# Altium schematic symbol library 10_RES_THD_AX14_8mm.SchLib: 9 symbols
Pins are listed as number, name and electrical type; pins without a type are passive.

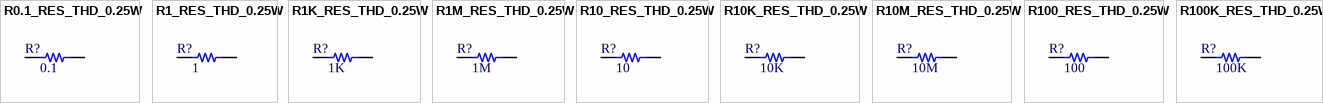
[diagram p0: symbols R0.1_RES_THD_0.25W to R100K_RES_THD_0.25W]

## R0.1_RES_THD_0.25W
designator R?, comment 0.1
RES_THD_0.25W-0.1; Rating: 0.25; Package: THT; Type: 5%; Value: 0.1
footprint 0.1_RES_THD_AX14_0.25W (0.1_RES_THD_AX14_0.25W- 8 mm)
pins: 1, 2

## R1_RES_THD_0.25W
designator R?, comment 1
RES_THD_0.25W-1; Rating: 0.25; Package: THT; Type: 5%; Value: 1
footprint 1_RES_THD_AX14_0.25W (1_RES_THD_AX14_0.25W - 8 mm)
pins: 1, 2

## R1K_RES_THD_0.25W
designator R?, comment 1K
RES_THD_0.25W-1K; Rating: 0.25; Package: THT; Type: 5%; Parameter 1: *; Value: 1K
footprint 1K_RES_THD_AX14_0.25W (1K_RES_THD_AX14_0.25W - 8 mm)
pins: 1, 2

## R1M_RES_THD_0.25W
designator R?, comment 1M
RES_THD_0.25W-1M; Rating: 0.25; Package: THT; Type: 5%; Value: 1M
footprint 1M_RES_THD_AX14_0.25W (1M_RES_THD_AX14_0.25W - 8 mm)
pins: 1, 2

## R10_RES_THD_0.25W
designator R?, comment 10
RES_THD_0.25W-10; Rating: 0.25; Package: THT; Type: 5%; Value: 10
footprint 10_RES_THD_AX14_0.25W (10_RES_THD_AX14_0.25W - 8 mm)
pins: 1, 2

## R10K_RES_THD_0.25W
designator R?, comment 10K
RES_THD_0.25W-10K; Rating: 0.25; Package: THT; Type: 5%; Parameter 1: *; Value: 10K
footprint 10K_RES_THD_AX14_0.25W (10K_RES_THD_AX14_0.25W - 8 mm)
pins: 1, 2

## R10M_RES_THD_0.25W
designator R?, comment 10M
RES_THD_0.25W-10M; Rating: 0.25; Package: THT; Type: 5%; Value: 10M
footprint 10M_RES_THD_AX14_0.25W (10M_RES_THD_AX14_0.25W - 8 mm)
pins: 1, 2

## R100_RES_THD_0.25W
designator R?, comment 100
RES_THD_0.25W-100; Rating: 0.25; Package: THT; Type: 5%; Value: 100
footprint 100_RES_THD_AX14_0.25W (100_RES_THD_AX14_0.25W - 8 mm)
pins: 1, 2

## R100K_RES_THD_0.25W
designator R?, comment 100K
RES_THD_0.25W-100K; Rating: 0.25; Package: THT; Type: 5%; Value: 100K
footprint 100K_RES_THD_AX14_0.25W (100K_RES_THD_AX14_0.25W - 8 mm)
pins: 1, 2